# Altium schematic symbol library C4AQIBW5400A3OJ.SchLib: 1 symbol
Pins are listed as number, name and electrical type; pins without a type are passive.

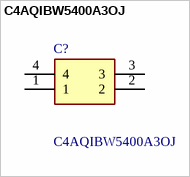
[diagram p0: symbol C4AQIBW5400A3OJ]

## C4AQIBW5400A3OJ
designator C?
C4AQ, Film, Metallized Polypropylene, Automotive DC Link, 40 uF, 5%, 800 VDC, 105C, -55C, 70C, 750 MOhms, 13 V/us, 14 nH, 92.8 g, 42mm, 50mm, 35mm, Lead Spacing = 37.5mm, 30; Manufacturer_Name: KEMET; Geometry.Height: 50.2mm; Manufacturer_Part_Number: C4AQIBW5400A3OJ; Mouser Part Number: 80-C4AQIBW5400A3OJ; Mouser Price/Stock: https://www.mouser.com/Search/Refine.aspx?Keyword=80-C4AQIBW5400A3OJ; Arrow Part Number: *; Arrow Price/Stock: *; Datasheet Link: https://content.kemet.com/datasheets/KEM_F3114_C4AQ.pdf
footprint C4AQIBW5400A3OJ
pins: 1, 2, 3, 4